# EAGLE library part ESP32_WROOM (library HMD_Library)
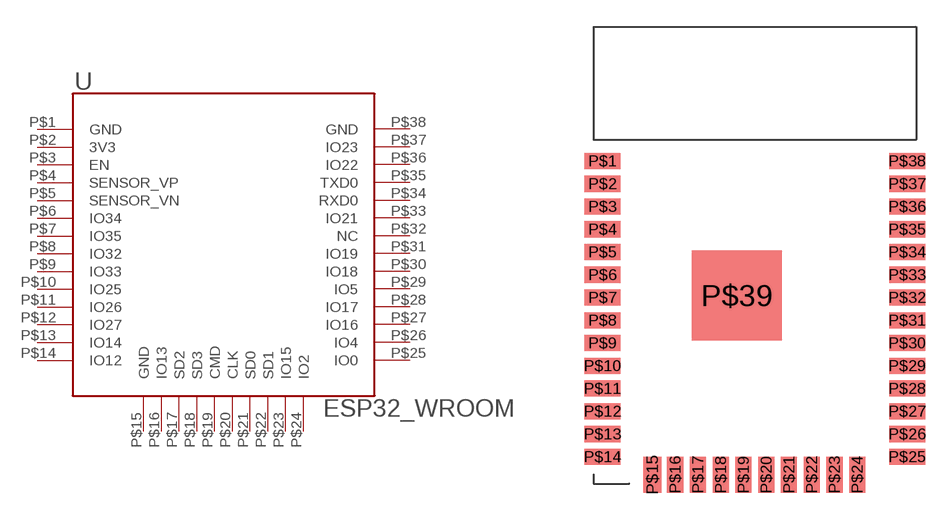
[diagram p0: symbol with the pads of ESP32_FP; footprint ESP32_FP]

Designator prefix -

## ESP32_WROOM  [ESP32_FP]
P$1  GND  pwr
P$2  3V3  pwr
P$3  EN  in
P$4  SENSOR_VP  in
P$5  SENSOR_VN  in
P$6  IO34
P$7  IO35
P$8  IO32
P$9  IO33
P$10  IO25
P$11  IO26
P$12  IO27
P$13  IO14
P$14  IO12
P$15  GND  pwr
P$16  IO13
P$17  SD2
P$18  SD3
P$19  CMD
P$20  CLK
P$21  SD0
P$22  SD1
P$23  IO15
P$24  IO2
P$25  IO0
P$26  IO4
P$27  IO16
P$28  IO17
P$29  IO5
P$30  IO18
P$31  IO19
P$32  NC  nc
P$33  IO21
P$34  RXD0
P$35  TXD0
P$36  IO22
P$37  IO23
P$38  GND  pwr

## Footprint ESP32_FP (pad centres in mm)
smd 2 x 0.9: P$1 -8.5,5.51; P$2 -8.5,4.24; P$3 -8.5,2.97; P$4 -8.5,1.7; P$5 -8.5,0.43; P$6 -8.5,-0.84; P$7 -8.5,-2.11; P$8 -8.5,-3.38; P$9 -8.5,-4.65; P$10 -8.5,-5.92; P$11 -8.5,-7.19; P$12 -8.5,-8.46; P$13 -8.5,-9.73; P$14 -8.5,-11; P$25 8.5,-11; P$26 8.5,-9.73; P$27 8.5,-8.46; P$28 8.5,-7.19; P$29 8.5,-5.92; P$30 8.5,-4.65; P$31 8.5,-3.38; P$32 8.5,-2.11; P$33 8.5,-0.84; P$34 8.5,0.43; P$35 8.5,1.7; P$36 8.5,2.97; P$37 8.5,4.24; P$38 8.5,5.51
smd 1 x 2: P$15 -5.715,-12
smd 0.9 x 2: P$16 -4.445,-12; P$17 -3.175,-12; P$18 -1.905,-12; P$19 -0.635,-12; P$20 0.635,-12; P$21 1.905,-12; P$22 3.175,-12; P$23 4.445,-12; P$24 5.715,-12
smd 5 x 5: P$39 -1,-1.99